# EAGLE library part SX1255 (library SX1301)
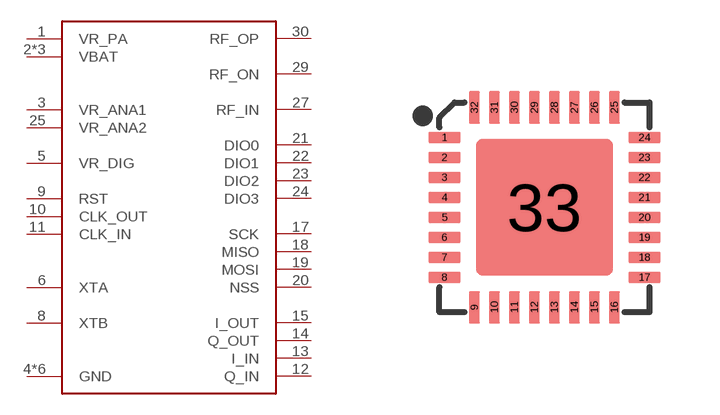
[diagram p0: symbol with the pads of QFN32G-0.5-5X5MM; footprint QFN32G-0.5-5X5MM]

Designator prefix -

## SX1255  [QFN32G-0.5-5X5MM]
1  VR_PA
2  VBAT
3  VR_ANA1
4  GND
5  VR_DIG
6  XTA
7  GND
8  XTB
9  RST
10  CLK_OUT
11  CLK_IN
12  Q_IN
13  I_IN
14  Q_OUT
15  I_OUT
16  VBAT
17  SCK
18  MISO
19  MOSI
20  NSS
21  DIO0
22  DIO1
23  DIO2
24  DIO3
25  VR_ANA2
26  GND
27  RF_IN
28  GND
29  RF_ON
30  RF_OP
31  GND
32  VBAT
33  GND

## Footprint QFN32G-0.5-5X5MM (pad centres in mm)
smd 0.813 x 0.279: 1 -2.5,1.75; 2 -2.5,1.25; 3 -2.5,0.75; 4 -2.5,0.25; 5 -2.5,-0.25; 6 -2.5,-0.75; 7 -2.5,-1.25; 8 -2.5,-1.75; 17 2.5,-1.75; 18 2.5,-1.25; 19 2.5,-0.75; 20 2.5,-0.25; 21 2.5,0.25; 22 2.5,0.75; 23 2.5,1.25; 24 2.5,1.75
smd 0.279 x 0.813: 9 -1.75,-2.5; 10 -1.25,-2.5; 11 -0.75,-2.5; 12 -0.25,-2.5; 13 0.25,-2.5; 14 0.75,-2.5; 15 1.25,-2.5; 16 1.75,-2.5; 25 1.75,2.5; 26 1.25,2.5; 27 0.75,2.5; 28 0.25,2.5; 29 -0.25,2.5; 30 -0.75,2.5; 31 -1.25,2.5; 32 -1.75,2.5
smd 3.429 x 3.429: 33 0,0